# Altium footprint library SOT23-8.PcbLib: 1 footprints
Each footprint in its own frame and in the unit in brackets; x right, y up, seen from the top. Pads: shape width x height; smd on the part's side, far side on the other; paste and mask are expansions set on the pad; w line width, h text height; cw(c..) or ccw(c..) is an arc to the next point about the centre after c.
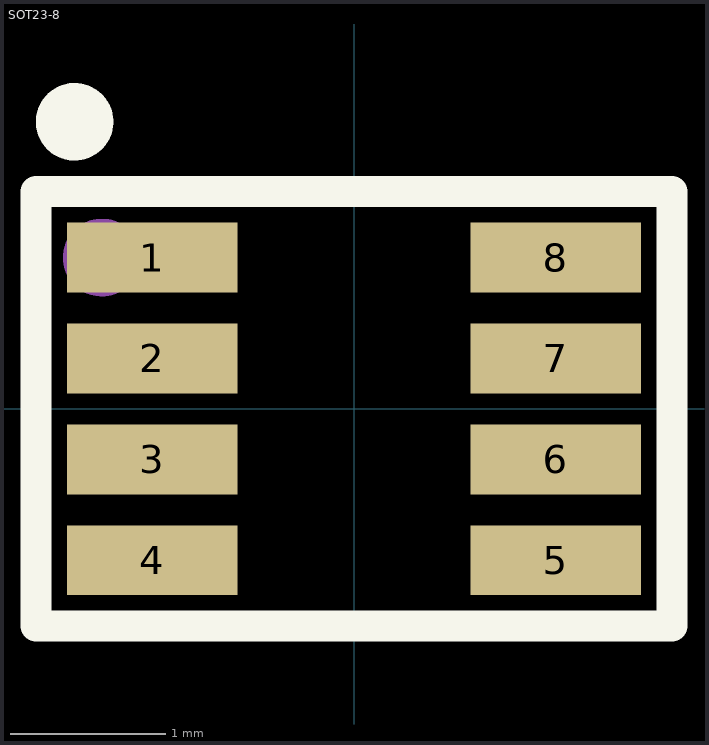
[diagram p0: the footprint, top view; thin cyan lines are the x and y axes]

## SOT23-8 [mm]
height 1
pads (8):
  rect 1.1x0.45 smd: 1(-1.3,0.975) 2(-1.3,0.325) 3(-1.3,-0.325) 4(-1.3,-0.975) 5(1.3,-0.975) 6(1.3,-0.325) 7(1.3,0.325) 8(1.3,0.975)
Top Overlay:
  circle w0.25: c-1.8,1.85 r0.125
  lines w0.2: -2.05,-1.4 -2.05,1.4 2.05,1.4 2.05,-1.4 -2.05,-1.4
Top Assembly:
  circle w0.25: c-1.625,0.975 r0.125
  lines w0.1: -2.05,-1.4 -2.05,1.4 2.05,1.4 2.05,-1.4 -2.05,-1.4
  text "'.Designator'" at -0.9,-0.325 h0.7
3D body "User Library-SOT-23-8 Thin.step": height 1.1, standoff 0, extent -1.48,-1.45 1.478,1.45